# Altium schematic symbol library Resistors.SchLib: 31 symbols
Pins are listed as number, name and electrical type; pins without a type are passive.

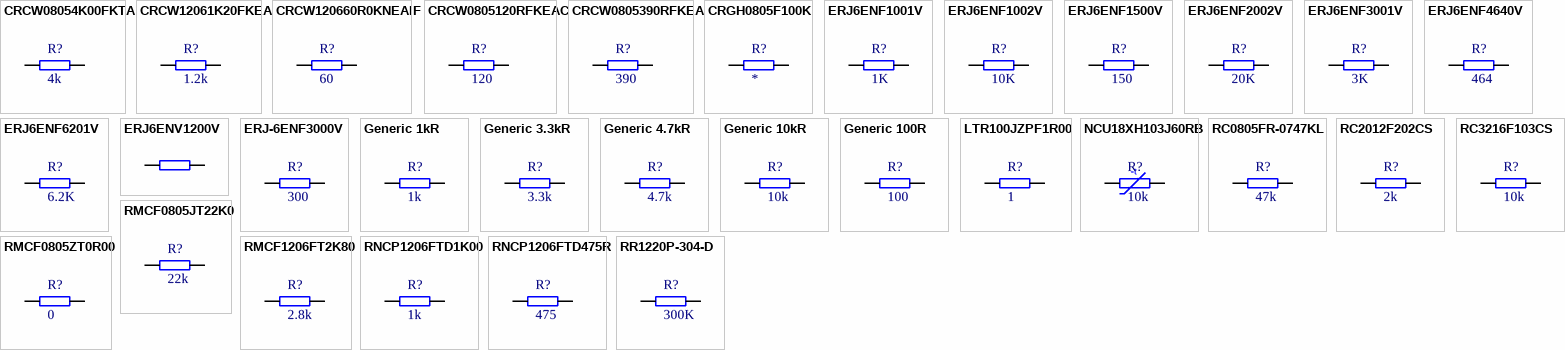
[diagram p0: symbols CRCW08054K00FKTA to RR1220P-304-D]

## CRCW08054K00FKTA
designator R?, comment 4k
RES SMD 4KOHM 1% 1/8W 0805; Manufacturer: Vishay Dale; Manufacturer Part Number: CRCW08054K00FKTA; Resistance: 4kR; Power Rating: 125mW; Voltage Rating: 150V; Temperature Coefficient: 100ppm/°C; Supplier 1: Digi-Key; Supplier Part Number 1: 541-CRCW08054K00FKTACT-ND; RoHS: Yes; Category: Chip SMD Resistors; Stock 1: 2286; Case/Package: 0805; Weight: 0.000194oz; Case Code (Imperial): 0805; Case Code (Metric): 2012; Contact Plating: Tin,Lead; Min Operating Temperature: -55°C; Max Operating Temperature: 155°C; Composition: Thick Film; Features: Automotive AEC-Q200; Packaging: Tape and Reel; Tolerance: 1%; Package Quantity: 5000; Number of Terminations: 2; Max Power Dissipation: 125mW; Length: 0.079inch; Height: 0.02inch; Width: 0.049inch; Radiation Hardening: No; Lead Free: Contains Lead; ComponentLink1URL: https://datasheet.ciiva.com/9075/dcrcw-9075638.pdf?src-supplier=Avnet; ComponentLink1Description: https://datasheet.ciiva.com/9075/dcrcw-9075638.pdf?src-supplier=Avnet
footprint R0805
pins: 1, 2

## CRCW12061K20FKEA
designator R?, comment 1.2k
VISHAY - CRCW12061K20FKEA - SMD Chip Resistor, 1206 [3216 Metric], 1.2 kohm, CRCW e3 Series, 200 V, Thick Film, 250 mW; Resistance: 1.2kR; Tolerance: 1%; Max Power Dissipation: 250mW; Temperature Coefficient: 100ppm/°C; Voltage Rating: 200V; Supplier 1: Digi-Key; Supplier Part Number 1: 541-1.20KFCT-ND; Manufacturer: Vishay; Manufacturer Part Number: CRCW12061K20FKEA; RoHS: Yes; Category: Chip SMD Resistors; Stock 1: 13043; Case/Package: 1206; Weight: 0.000353oz; Case Code (Metric): 3216; Case Code (Imperial): 1206; Contact Plating: Tin; Min Operating Temperature: -55°C; Max Operating Temperature: 155°C; Packaging: Tape and Reel; Composition: Thick Film; Number of Terminations: 2; Features: Automotive AEC-Q200; Power Rating: 250mW; Package Quantity: 10; Voltage Rating (DC): 200V; Working Voltage: 200V; Military Standard: Not; Termination: SMD/SMT; Length: 3.2mm; Height: 0.55mm; Width: 0.063inch; Depth: 1.6mm; Radiation Hardening: No; REACH SVHC: Unknown; Lead Free: Lead Free; ComponentLink1URL: https://datasheet.ciiva.com/11809/0900766b80d98b5e-11809061.pdf?src-supplier=RSComponents; ComponentLink1Description: https://datasheet.ciiva.com/11809/0900766b80d98b5e-11809061.pdf?src-supplier=RSComponents; ComponentLink2URL: https://datasheet.ciiva.com/2469/dcrcwe3-2469104.pdf?src-supplier=Digi-Key; ComponentLink2Description: https://datasheet.ciiva.com/2469/dcrcwe3-2469104.pdf?src-supplier=Digi-Key; ComponentLink3URL: https://datasheet.ciiva.com/22674/1847332-22674725.pdf?src-supplier=Element14; ComponentLink3Description: https://datasheet.ciiva.com/22674/1847332-22674725.pdf?src-supplier=Element14; ComponentLink4URL: https://datasheet.ciiva.com/16202/dcrcwe3-16202471.pdf?src-supplier=Future+Electronics; ComponentLink4Description: https://datasheet.ciiva.com/16202/dcrcwe3-16202471.pdf?src-supplier=Future+Electronics; ComponentLink5URL: https://datasheet.ciiva.com/22704/1533075-22704455.pdf?src-supplier=Element14; ComponentLink5Description: https://datasheet.ciiva.com/22704/1533075-22704455.pdf?src-supplier=Element14; ComponentLink6URL: https://datasheet.ciiva.com/7777/1697337-7777448.pdf?src-supplier=Element14; ComponentLink6Description: https://datasheet.ciiva.com/7777/1697337-7777448.pdf?src-supplier=Element14; ComponentLink7URL: https://datasheet.ciiva.com/16761/70201119-16761705.pdf?src-supplier=Allied+Electronics; ComponentLink7Description: https://datasheet.ciiva.com/16761/70201119-16761705.pdf?src-supplier=Allied+Electronics; ComponentLink8URL: https://datasheet.ciiva.com/16852/dcrcwe3-16852637.pdf?src-supplier=Avnet+Europe; ComponentLink8Description: https://datasheet.ciiva.com/16852/dcrcwe3-16852637.pdf?src-supplier=Avnet+Europe; ComponentLink9URL: https://datasheet.ciiva.com/22871/70201119-22871181.pdf?src-supplier=Allied+Electronics; ComponentLink9Description: https://datasheet.ciiva.com/22871/70201119-22871181.pdf?src-supplier=Allied+Electronics; ComponentLink10URL: https://datasheet.ciiva.com/2469/dcrcwe3-2469102.pdf?src-supplier=Digi-Key; ComponentLink10Description: https://datasheet.ciiva.com/2469/dcrcwe3-2469102.pdf?src-supplier=Digi-Key; ComponentLink11URL: https://datasheet.ciiva.com/2469/dcrcwe3-2469103.pdf?src-supplier=Digi-Key; ComponentLink11Description: https://datasheet.ciiva.com/2469/dcrcwe3-2469103.pdf?src-supplier=Digi-Key; ComponentLink12URL: https://datasheet.ciiva.com/7777/1533075-7777583.pdf?src-supplier=Element14; ComponentLink12Description: https://datasheet.ciiva.com/7777/1533075-7777583.pdf?src-supplier=Element14
footprint 1206
pins: 1, 2

## CRCW120660R0KNEAIF
designator R?, comment 60
D25/CRCW1206-IF 200 60R 10% ET1 e3; Manufacturer: Vishay; Manufacturer Part Number: CRCW120660R0KNEAIF; Max Power Dissipation: 250mW; Temperature Coefficient: 200ppm/°C; Voltage Rating: 200V; Supplier 1: Mouser; Supplier Part Number 1: 71-CRCW120660R0KNAIF; RoHS: Yes; Category: Chip SMD Resistors; Stock 1: 1886; Case/Package: 1206; Weight: 0.000353oz; Case Code (Imperial): 1206; Case Code (Metric): 3216; Min Operating Temperature: -55°C; Max Operating Temperature: 155°C; Composition: Thick Film; Features: Automotive AEC-Q200; Termination: SMD/SMT; Number of Terminations: 2; Power Rating: 250mW; Packaging: Tape and Reel; Package Quantity: 5000; Resistance: 60R; Tolerance: 10%; Length: 0.126inch; Height: 0.024inch; Width: 1.6mm; ComponentLink1URL: http://www.vishay.com/doc?20024?src-supplier=Mouser; ComponentLink1Description: http://www.vishay.com/doc?20024?src-supplier=Mouser; ComponentLink2URL: http://www.vishay.com/docs/20024/dcrcwife3.pdf?src-supplier=Digi-Key; ComponentLink2Description: http://www.vishay.com/docs/20024/dcrcwife3.pdf?src-supplier=Digi-Key
footprint 1206
pins: 1, 2

## CRCW0805120RFKEAC
designator R?, comment 120
RES 120 OHM 1% 1/8W 0805; Manufacturer: Vishay; Manufacturer Part Number: CRCW0805120RFKEAC; Resistance: 120R; Max Power Dissipation: 125mW; Temperature Coefficient: 100ppm/°C; Supplier 1: Digi-Key; Supplier Part Number 1: 541-CRCW0805120RFKEACCT-ND; RoHS: No; Category: Chip SMD Resistors; Stock 1: 40000; Case/Package: 0805; Min Operating Temperature: -55°C; Max Operating Temperature: 155°C; Composition: Thick Film; Packaging: Tape and Reel; Tolerance: 1%; Number of Terminations: 2; ComponentLink1URL: http://www.vishay.com/docs/28773/crcwce3.pdf?src-supplier=Digi-Key; ComponentLink1Description: http://www.vishay.com/docs/28773/crcwce3.pdf?src-supplier=Digi-Key
footprint 0805
pins: 1, 2

## CRCW0805390RFKEA
designator R?, comment 390
VISHAY - CRCW0805390RFKEA - RES, THICK FILM, 390R, 1%, 0.125W, 0805, REEL; Temperature Coefficient: 100ppm/°C; Voltage Rating (DC): 150V; Power Rating: 125mW; Supplier 1: Digi-Key; Manufacturer: Vishay; Manufacturer Part Number: CRCW0805390RFKEA; RoHS: Yes; Category: Chip SMD Resistors; Stock 1: 8492; Pricing 1: 1=0.10000, 10=0.06200, 100=0.02540, 1000=0.01142, 2500=0.00991 (USD); Mount: Surface Mount; Case/Package: 0805; Weight: 0.000194oz; Case Code (Metric): 2012; Case Code (Imperial): 0805; Contact Plating: Tin; Min Operating Temperature: -55°C; Max Operating Temperature: 155°C; Tolerance: 1%; Packaging: Tape and Reel; Termination: SMD/SMT; Resistance: 390R; Voltage Rating: 150V; Composition: Thick Film; Package Quantity: 10; Max Power Dissipation: 125mW; Number of Terminations: 2; Military Standard: Not; Features: Automotive AEC-Q200; Length: 2mm; Height: 0.45mm; Width: 0.049inch; Depth: 1.25mm; Radiation Hardening: No; Lead Free: Lead Free; REACH SVHC: Unknown; ComponentLink1URL: https://datasheet.ciiva.com/11811/0900766b80d98b26-11811064.pdf?src-supplier=RSComponents; ComponentLink1Description: https://datasheet.ciiva.com/11811/0900766b80d98b26-11811064.pdf?src-supplier=RSComponents; ComponentLink2URL: https://datasheet.ciiva.com/2467/dcrcwe3-2467398.pdf?src-supplier=Digi-Key; ComponentLink2Description: https://datasheet.ciiva.com/2467/dcrcwe3-2467398.pdf?src-supplier=Digi-Key; ComponentLink3URL: https://datasheet.ciiva.com/2467/dcrcwe3-2467399.pdf?src-supplier=Digi-Key; ComponentLink3Description: https://datasheet.ciiva.com/2467/dcrcwe3-2467399.pdf?src-supplier=Digi-Key; ComponentLink4URL: https://datasheet.ciiva.com/8940/dcrcwe3-8940583.pdf?src-supplier=Avnet; ComponentLink4Description: https://datasheet.ciiva.com/8940/dcrcwe3-8940583.pdf?src-supplier=Avnet; ComponentLink5URL: https://datasheet.ciiva.com/2467/dcrcwe3-2467400.pdf?src-supplier=Digi-Key; ComponentLink5Description: https://datasheet.ciiva.com/2467/dcrcwe3-2467400.pdf?src-supplier=Digi-Key; ComponentLink6URL: https://datasheet.ciiva.com/16762/70201119-16762921.pdf?src-supplier=Allied+Electronics; ComponentLink6Description: https://datasheet.ciiva.com/16762/70201119-16762921.pdf?src-supplier=Allied+Electronics; ComponentLink7URL: https://datasheet.ciiva.com/7672/1697337-7672987.pdf?src-supplier=Element14; ComponentLink7Description: https://datasheet.ciiva.com/7672/1697337-7672987.pdf?src-supplier=Element14; ComponentLink8URL: https://datasheet.ciiva.com/16395/dcrcwe3-16395355.pdf?src-supplier=Future+Electronics; ComponentLink8Description: https://datasheet.ciiva.com/16395/dcrcwe3-16395355.pdf?src-supplier=Future+Electronics; ComponentLink9URL: https://datasheet.ciiva.com/17162/dcrcwe3-17162445.pdf?src-supplier=Avnet+Europe; ComponentLink9Description: https://datasheet.ciiva.com/17162/dcrcwe3-17162445.pdf?src-supplier=Avnet+Europe; ComponentLink10URL: https://datasheet.ciiva.com/5543/dcrcwe3-109170-5543134.pdf?src-supplier=Mouser; ComponentLink10Description: https://datasheet.ciiva.com/5543/dcrcwe3-109170-5543134.pdf?src-supplier=Mouser; ComponentLink11URL: https://datasheet.ciiva.com/22682/1847332-22682671.pdf?src-supplier=Element14; ComponentLink11Description: https://datasheet.ciiva.com/22682/1847332-22682671.pdf?src-supplier=Element14; Supplier Part Number 1: 541-390CCT-ND
footprint 0805
pins: 1, 2

## CRGH0805F100K
designator R?
RES SMD 100K OHM 1% 1/3W 0805; Manufacturer: TE Connectivity Holsworthy; Manufacturer Part Number: CRGH0805F100K; Resistance: 100kR; Temperature Coefficient: 100ppm/°C; Power Rating: 330mW; Voltage Rating: 150V; Number of Resistors: 1; Supplier 1: Digi-Key; RoHS: Yes; Category: Chip SMD Resistors; Stock 1: 3599; Pricing 1: 1=0.10000, 10=0.07200, 100=0.02910, 1000=0.01309, 2500=0.01136 (USD); Mount: Surface Mount; Case/Package: 0805; Case Code (Imperial): 0805; Case Code (Metric): 2012; Min Operating Temperature: -55°C; Max Operating Temperature: 125°C; Tolerance: 1%; Packaging: Tape and Reel; Composition: Thick Film,Power resistor; Number of Terminations: 2; Voltage Rating (DC): 150V; Termination: Solder; Length: 2mm; Height: 0.55mm; Width: 1.25mm; Depth: 1.25mm; ELV: Compliant; REACH SVHC: No SVHC; ComponentLink1URL: https://datasheet.ciiva.com/22670/1755795-22670347.pdf?src-supplier=Element14; ComponentLink1Description: https://datasheet.ciiva.com/22670/1755795-22670347.pdf?src-supplier=Element14; ComponentLink2URL: https://datasheet.ciiva.com/28588/1755795-28588172.pdf?src-supplier=Element14; ComponentLink2Description: https://datasheet.ciiva.com/28588/1755795-28588172.pdf?src-supplier=Element14; Supplier Part Number 1: A126415CT-ND
footprint 0805
pins: 1, 2

## ERJ6ENF1001V
designator R?, comment 1K
RES SMD 1K OHM 1% 1/8W 0805; Manufacturer: Panasonic; Manufacturer Part Number: ERJ6ENF1001V; Resistance: 1kR; Power Rating: 125mW; Temperature Coefficient: 100ppm/°C; Voltage Rating (DC): 150V; Supplier 1: Digi-Key; Supplier Part Number 1: P1.00KCCT-ND; Stock 1: 946321; Pricing 1: 1 = 0.100000, 10 = 0.081000, 100 = 0.031100, 1000 = 0.013670, 2500 = 0.011810 (USD); RoHS: Yes; Mount: Surface Mount; Case/Package: 0805; Number of Pins: 2; Case Code (Metric): 2012; Case Code (Imperial): 0805; Contact Plating: Tin; Min Operating Temperature: -55°C; Max Operating Temperature: 155°C; Tolerance: 1%; Packaging: Tape and Reel; Number of Terminations: 2; Package Quantity: 1; Voltage Rating: 150V; Composition: Thick Film; Termination: SMD/SMT; Military Standard: Not; Max Power Dissipation: 125mW; Features: Automotive AEC-Q200; Length: 2mm; Height: 0.6mm; Width: 0.049inch; Depth: 1.25mm; Radiation Hardening: No; REACH SVHC: No SVHC; Lead Free: Lead Free; ComponentLink1URL: https://datasheet.ciiva.com/34303/1988962-34303619.pdf?src-supplier=Jameco; ComponentLink1Description: https://datasheet.ciiva.com/34303/1988962-34303619.pdf?src-supplier=Jameco; ComponentLink2URL: https://datasheet.ciiva.com/11808/0900766b80f80784-11808500.pdf?src-supplier=RSComponents; ComponentLink2Description: https://datasheet.ciiva.com/11808/0900766b80f80784-11808500.pdf?src-supplier=RSComponents; ComponentLink3URL: https://datasheet.ciiva.com/28532/426256-28532134.pdf?src-supplier=Element14; ComponentLink3Description: https://datasheet.ciiva.com/28532/426256-28532134.pdf?src-supplier=Element14; ComponentLink4URL: https://datasheet.ciiva.com/30051/aoa0000ce2-30051974.pdf?src-supplier=Onlinecomponents.com; ComponentLink4Description: https://datasheet.ciiva.com/30051/aoa0000ce2-30051974.pdf?src-supplier=Onlinecomponents.com; ComponentLink5URL: https://datasheet.ciiva.com/16774/70260748-16774249.pdf?src-supplier=Allied+Electronics; ComponentLink5Description: https://datasheet.ciiva.com/16774/70260748-16774249.pdf?src-supplier=Allied+Electronics; ComponentLink6URL: https://datasheet.ciiva.com/46373/1678782-46373337.pdf?src-supplier=Element14; ComponentLink6Description: https://datasheet.ciiva.com/46373/1678782-46373337.pdf?src-supplier=Element14; ComponentLink7URL: https://datasheet.ciiva.com/46373/1678782-46373338.pdf?src-supplier=Element14; ComponentLink7Description: https://datasheet.ciiva.com/46373/1678782-46373338.pdf?src-supplier=Element14; ComponentLink8URL: https://datasheet.ciiva.com/48532/aoa0000ce2-48532156.pdf?src-supplier=Avnet; ComponentLink8Description: https://datasheet.ciiva.com/48532/aoa0000ce2-48532156.pdf?src-supplier=Avnet; ComponentLink9URL: https://datasheet.ciiva.com/7942/426256-7942429.pdf?src-supplier=Element14; ComponentLink9Description: https://datasheet.ciiva.com/7942/426256-7942429.pdf?src-supplier=Element14; ComponentLink10URL: https://datasheet.ciiva.com/16199/aoa0000ce2-16199262.pdf?src-supplier=Future+Electronics; ComponentLink10Description: https://datasheet.ciiva.com/16199/aoa0000ce2-16199262.pdf?src-supplier=Future+Electronics; ComponentLink11URL: https://datasheet.ciiva.com/9117/aoa0000ce2-9117391.pdf?src-supplier=Avnet; ComponentLink11Description: https://datasheet.ciiva.com/9117/aoa0000ce2-9117391.pdf?src-supplier=Avnet; ComponentLink12URL: https://datasheet.ciiva.com/16523/aoa0000ce2-16523855.pdf?src-supplier=Avnet+Asia; ComponentLink12Description: https://datasheet.ciiva.com/16523/aoa0000ce2-16523855.pdf?src-supplier=Avnet+Asia; Category: Resistors
footprint R0805
pins: 1, 2

## ERJ6ENF1002V
designator R?, comment 10K
RES SMD 10K OHM 1% 1/8W 0805; Manufacturer: Yageo; Manufacturer Part Number: ERJ-6ENF1002V; Temperature Coefficient: 100ppm/°C; Voltage Rating (DC): 150V; Power Rating: 125mW; Resistance: 10000R; Supplier 1: Digi-Key; Supplier Part Number 1: P10.0KCCT-ND; Stock 1: 3342401; Pricing 1: 1 = 0.100000, 10 = 0.081000, 100 = 0.031100, 1000 = 0.013670, 2500 = 0.011810 (USD); RoHS: No; Mount: Surface Mount; Case/Package: 0805; Number of Pins: 2; Min Operating Temperature: -55°C; Max Operating Temperature: 155°C; Packaging: Tape and Reel; Tolerance: 1%; Length: 2mm; Height: 0.5mm; Depth: 1.25mm; Width: 1.25mm; REACH SVHC: No SVHC; Lead Free: Lead Free; ComponentLink1URL: https://datasheet.ciiva.com/27056/2078477-27056611.pdf?src-supplier=Jameco; ComponentLink1Description: https://datasheet.ciiva.com/27056/2078477-27056611.pdf?src-supplier=Jameco; Category: Resistors
footprint R0805
pins: 1, 2

## ERJ6ENF1500V
designator R?, comment 150
RES SMD 150 OHM 1% 1/8W 0805; Manufacturer: Panasonic; Manufacturer Part Number: ERJ6ENF1500V; Voltage Rating: 150V; Resistance: 150R; Power Rating: 125mW; Temperature Coefficient: 100ppm/°C; Supplier 1: Digi-Key; Supplier Part Number 1: P150CCT-ND; Stock 1: 287199; Pricing 1: 1 = 0.10000, 10 = 0.08100, 100 = 0.03110, 1000 = 0.01367, 2500 = 0.01181 (USD); RoHS: Yes; Mount: Surface Mount; Case/Package: 0805; Number of Pins: 2; Case Code (Metric): 2012; Case Code (Imperial): 0805; Contact Plating: Tin; Min Operating Temperature: -55°C; Max Operating Temperature: 155°C; Category: Resistors; Tolerance: 1%; Package Quantity: 1; Composition: Thick Film; Number of Terminations: 2; Military Standard: Not; Termination: SMD/SMT; Max Power Dissipation: 125mW; Voltage Rating (DC): 150V; Features: Automotive AEC-Q200; Working Voltage: 150V; Length: 2mm; Height: 0.6mm; Width: 0.049inch; Depth: 1.25mm; Radiation Hardening: No; REACH SVHC: No SVHC; Lead Free: Lead Free; ComponentLink1URL: https://datasheet.ciiva.com/11821/0900766b80f80784-11821520.pdf?src-supplier=RSComponents; ComponentLink1Description: https://datasheet.ciiva.com/11821/0900766b80f80784-11821520.pdf?src-supplier=RSComponents; ComponentLink2URL: https://datasheet.ciiva.com/7887/426256-7887029.pdf?src-supplier=Element14; ComponentLink2Description: https://datasheet.ciiva.com/7887/426256-7887029.pdf?src-supplier=Element14; ComponentLink3URL: https://datasheet.ciiva.com/16761/70260748-16761222.pdf?src-supplier=Allied+Electronics; ComponentLink3Description: https://datasheet.ciiva.com/16761/70260748-16761222.pdf?src-supplier=Allied+Electronics; ComponentLink4URL: https://datasheet.ciiva.com/46373/1678782-46373270.pdf?src-supplier=Element14; ComponentLink4Description: https://datasheet.ciiva.com/46373/1678782-46373270.pdf?src-supplier=Element14; ComponentLink5URL: https://datasheet.ciiva.com/46373/1678782-46373271.pdf?src-supplier=Element14; ComponentLink5Description: https://datasheet.ciiva.com/46373/1678782-46373271.pdf?src-supplier=Element14; ComponentLink6URL: https://datasheet.ciiva.com/30203/aoa0000ce2-30203641.pdf?src-supplier=Onlinecomponents.com; ComponentLink6Description: https://datasheet.ciiva.com/30203/aoa0000ce2-30203641.pdf?src-supplier=Onlinecomponents.com; ComponentLink7URL: https://datasheet.ciiva.com/9185/aoa0000ce2-9185514.pdf?src-supplier=Avnet; ComponentLink7Description: https://datasheet.ciiva.com/9185/aoa0000ce2-9185514.pdf?src-supplier=Avnet; Parameter 1: *
footprint R0805
pins: 1, 2

## ERJ6ENF2002V
designator R?, comment 20K
RES SMD 20K OHM 1% 1/8W 0805; Manufacturer: Panasonic; Manufacturer Part Number: ERJ6ENF2002V; Resistance: 20kR; Power Rating: 125mW; Voltage Rating: 150V; Temperature Coefficient: 100ppm/°C; Supplier 1: Digi-Key; Supplier Part Number 1: P20.0KCCT-ND; Stock 1: 1039498; Pricing 1: 1 = 0.10000, 10 = 0.08100, 100 = 0.03110, 1000 = 0.01367, 2500 = 0.01181 (USD); RoHS: Yes; Mount: Surface Mount; Case/Package: 0805; Case Code (Metric): 2012; Case Code (Imperial): 0805; Contact Plating: Tin; Min Operating Temperature: -55°C; Max Operating Temperature: 155°C; Tolerance: 1%; Packaging: Tape and Reel; Package Quantity: 1; Composition: Thick Film; Number of Terminations: 2; Military Standard: Not; Termination: SMD/SMT; Max Power Dissipation: 125mW; Voltage Rating (DC): 150V; Features: Automotive AEC-Q200; Working Voltage: 150V; Length: 2mm; Height: 0.6mm; Width: 0.049inch; Depth: 1.25mm; Radiation Hardening: No; REACH SVHC: No SVHC; Lead Free: Lead Free; ComponentLink1URL: https://datasheet.ciiva.com/11821/0900766b80f80784-11821565.pdf?src-supplier=RSComponents; ComponentLink1Description: https://datasheet.ciiva.com/11821/0900766b80f80784-11821565.pdf?src-supplier=RSComponents; ComponentLink2URL: https://datasheet.ciiva.com/30072/aoa0000ce2-30072453.pdf?src-supplier=Onlinecomponents.com; ComponentLink2Description: https://datasheet.ciiva.com/30072/aoa0000ce2-30072453.pdf?src-supplier=Onlinecomponents.com; ComponentLink3URL: https://datasheet.ciiva.com/43460/426256-43460054.pdf?src-supplier=Farnell; ComponentLink3Description: https://datasheet.ciiva.com/43460/426256-43460054.pdf?src-supplier=Farnell; ComponentLink4URL: https://datasheet.ciiva.com/16786/70260748-16786968.pdf?src-supplier=Allied+Electronics; ComponentLink4Description: https://datasheet.ciiva.com/16786/70260748-16786968.pdf?src-supplier=Allied+Electronics; ComponentLink5URL: https://datasheet.ciiva.com/9192/aoa0000ce2-9192153.pdf?src-supplier=Avnet; ComponentLink5Description: https://datasheet.ciiva.com/9192/aoa0000ce2-9192153.pdf?src-supplier=Avnet; ComponentLink6URL: https://datasheet.ciiva.com/48531/aoa0000ce2-48531785.pdf?src-supplier=Avnet; ComponentLink6Description: https://datasheet.ciiva.com/48531/aoa0000ce2-48531785.pdf?src-supplier=Avnet; ComponentLink7URL: https://datasheet.ciiva.com/15159/getdatasheetpartid-249649-15159066.pdf?src-supplier=Verical; ComponentLink7Description: https://datasheet.ciiva.com/15159/getdatasheetpartid-249649-15159066.pdf?src-supplier=Verical; ComponentLink8URL: https://datasheet.ciiva.com/17211/aoa0000ce2-17211115.pdf?src-supplier=Avnet+Europe; ComponentLink8Description: https://datasheet.ciiva.com/17211/aoa0000ce2-17211115.pdf?src-supplier=Avnet+Europe; ComponentLink9URL: https://datasheet.ciiva.com/46389/426256-46389083.pdf?src-supplier=Element14; ComponentLink9Description: https://datasheet.ciiva.com/46389/426256-46389083.pdf?src-supplier=Element14; ComponentLink10URL: https://datasheet.ciiva.com/46377/426256-46377356.pdf?src-supplier=Element14; ComponentLink10Description: https://datasheet.ciiva.com/46377/426256-46377356.pdf?src-supplier=Element14; ComponentLink11URL: https://datasheet.ciiva.com/24025/aoa0000ce2-24025709.pdf?src-supplier=Mouser; ComponentLink11Description: https://datasheet.ciiva.com/24025/aoa0000ce2-24025709.pdf?src-supplier=Mouser; ComponentLink12URL: https://datasheet.ciiva.com/28688/1678782-28688637.pdf?src-supplier=Element14; ComponentLink12Description: https://datasheet.ciiva.com/28688/1678782-28688637.pdf?src-supplier=Element14; ComponentLink13URL: https://datasheet.ciiva.com/16512/aoa0000ce2-16512158.pdf?src-supplier=Avnet+Asia; ComponentLink13Description: https://datasheet.ciiva.com/16512/aoa0000ce2-16512158.pdf?src-supplier=Avnet+Asia; ComponentLink14URL: https://datasheet.ciiva.com/22749/1678782-22749662.pdf?src-supplier=Element14; ComponentLink14Description: https://datasheet.ciiva.com/22749/1678782-22749662.pdf?src-supplier=Element14; Category: Resistors
footprint R0805
pins: 1, 2

## ERJ6ENF3001V
designator R?, comment 3K
RES SMD 3K OHM 1% 1/8W 0805; Manufacturer: Panasonic; Manufacturer Part Number: ERJ6ENF3001V; Resistance: 3kR; Power Rating: 125mW; Voltage Rating: 150V; Temperature Coefficient: 100ppm/°C; Supplier 1: Digi-Key; Supplier Part Number 1: P3.0KCCT-ND; Stock 1: 514759; Pricing 1: 1 = 0.10000, 10 = 0.08100, 100 = 0.03110, 1000 = 0.01367, 2500 = 0.01181 (USD); RoHS: Yes; Mount: Surface Mount; Case/Package: 0805; Weight: 0.000194oz; Case Code (Metric): 2012; Case Code (Imperial): 0805; Contact Plating: Tin; Min Operating Temperature: -55°C; Max Operating Temperature: 155°C; Tolerance: 1%; Packaging: Tape and Reel; Package Quantity: 1; Composition: Thick Film; Number of Terminations: 2; Termination: SMD/SMT; Military Standard: Not; Max Power Dissipation: 125mW; Voltage Rating (DC): 150V; Features: Automotive AEC-Q200; Length: 2mm; Height: 0.6mm; Width: 0.049inch; Depth: 1.25mm; Radiation Hardening: No; REACH SVHC: No SVHC; ComponentLink1URL: https://datasheet.ciiva.com/11821/0900766b80f80784-11821622.pdf?src-supplier=RSComponents; ComponentLink1Description: https://datasheet.ciiva.com/11821/0900766b80f80784-11821622.pdf?src-supplier=RSComponents; ComponentLink2URL: https://datasheet.ciiva.com/30198/aoa0000ce2-30198229.pdf?src-supplier=Onlinecomponents.com; ComponentLink2Description: https://datasheet.ciiva.com/30198/aoa0000ce2-30198229.pdf?src-supplier=Onlinecomponents.com; ComponentLink3URL: https://datasheet.ciiva.com/17213/aoa0000ce2-17213863.pdf?src-supplier=Avnet+Europe; ComponentLink3Description: https://datasheet.ciiva.com/17213/aoa0000ce2-17213863.pdf?src-supplier=Avnet+Europe; ComponentLink4URL: https://datasheet.ciiva.com/24165/aoa0000ce2-24165784.pdf?src-supplier=Mouser; ComponentLink4Description: https://datasheet.ciiva.com/24165/aoa0000ce2-24165784.pdf?src-supplier=Mouser; ComponentLink5URL: https://datasheet.ciiva.com/9117/aoa0000ce2-9117481.pdf?src-supplier=Avnet; ComponentLink5Description: https://datasheet.ciiva.com/9117/aoa0000ce2-9117481.pdf?src-supplier=Avnet; ComponentLink6URL: https://datasheet.ciiva.com/28691/1678782-28691979.pdf?src-supplier=Element14; ComponentLink6Description: https://datasheet.ciiva.com/28691/1678782-28691979.pdf?src-supplier=Element14; ComponentLink7URL: https://datasheet.ciiva.com/46386/426256-46386363.pdf?src-supplier=Element14; ComponentLink7Description: https://datasheet.ciiva.com/46386/426256-46386363.pdf?src-supplier=Element14; ComponentLink8URL: https://datasheet.ciiva.com/16758/70260748-16758588.pdf?src-supplier=Allied+Electronics; ComponentLink8Description: https://datasheet.ciiva.com/16758/70260748-16758588.pdf?src-supplier=Allied+Electronics; ComponentLink9URL: https://datasheet.ciiva.com/6137/426256-6137581.pdf?src-supplier=Farnell; ComponentLink9Description: https://datasheet.ciiva.com/6137/426256-6137581.pdf?src-supplier=Farnell; ComponentLink10URL: https://datasheet.ciiva.com/46373/426256-46373965.pdf?src-supplier=Element14; ComponentLink10Description: https://datasheet.ciiva.com/46373/426256-46373965.pdf?src-supplier=Element14; ComponentLink11URL: https://datasheet.ciiva.com/28565/1678782-28565182.pdf?src-supplier=Element14; ComponentLink11Description: https://datasheet.ciiva.com/28565/1678782-28565182.pdf?src-supplier=Element14; ComponentLink12URL: https://datasheet.ciiva.com/16762/70260748-16762943.pdf?src-supplier=Allied+Electronics; ComponentLink12Description: https://datasheet.ciiva.com/16762/70260748-16762943.pdf?src-supplier=Allied+Electronics; Category: Resistors
footprint R0805
pins: 1, 2

## ERJ6ENF4640V
designator R?, comment 464
RES SMD 464 OHM 1% 1/8W 0805; Supplier 1: Digi-Key; Supplier Part Number 1: P464CCT-ND
footprint R0805
pins: 1, 2

## ERJ6ENF6201V
designator R?, comment 6.2K
RES SMD 6.2K OHM 1% 1/8W 0805; Manufacturer: Panasonic; Manufacturer Part Number: ERJ6ENF6201V; Resistance: 6.2kR; Power Rating: 125mW; Voltage Rating: 150V; Temperature Coefficient: 100ppm/°C; Supplier 1: Digi-Key; Supplier Part Number 1: P6.20KCCT-ND; Stock 1: 65881; Pricing 1: 1 = 0.10000, 10 = 0.08100, 100 = 0.03110, 1000 = 0.01367, 2500 = 0.01181 (USD); RoHS: Yes; Mount: Surface Mount; Case/Package: 0805; Weight: 0.000194oz; Case Code (Imperial): 0805; Case Code (Metric): 2012; Contact Plating: Tin; Min Operating Temperature: -55°C; Max Operating Temperature: 155°C; Tolerance: 1%; Packaging: Tape and Reel; Package Quantity: 1; Composition: Thick Film; Termination: SMD/SMT; Number of Terminations: 2; Military Standard: Not; Max Power Dissipation: 125mW; Voltage Rating (DC): 150V; Features: Automotive AEC-Q200; Length: 2mm; Height: 0.6mm; Width: 1.2mm; Depth: 1.25mm; Radiation Hardening: No; REACH SVHC: No SVHC; ComponentLink1URL: https://datasheet.ciiva.com/11821/0900766b80f80784-11821682.pdf?src-supplier=RSComponents; ComponentLink1Description: https://datasheet.ciiva.com/11821/0900766b80f80784-11821682.pdf?src-supplier=RSComponents; ComponentLink2URL: https://datasheet.ciiva.com/46373/1678782-46373789.pdf?src-supplier=Element14; ComponentLink2Description: https://datasheet.ciiva.com/46373/1678782-46373789.pdf?src-supplier=Element14; ComponentLink3URL: https://datasheet.ciiva.com/46373/1678782-46373790.pdf?src-supplier=Element14; ComponentLink3Description: https://datasheet.ciiva.com/46373/1678782-46373790.pdf?src-supplier=Element14; Category: Resistors
footprint R0805
pins: 1, 2

## ERJ6ENV1200V
designator R?, comment 120 ohm  (value not drawn)
RES SMD 120 OHM 1% 1/8W 0805; ComponentLink1Description: https://datasheet.ciiva.com/11821/0900766b80f80784-11821533.pdf?src-supplier=RSComponents; ComponentLink1URL: https://datasheet.ciiva.com/11821/0900766b80f80784-11821533.pdf?src-supplier=RSComponents; Supplier 1: Digi-Key; Supplier Part Number 1: P120CCT-ND
footprint R0805
pins: 1, 2

## ERJ-6ENF3000V
designator R?, comment 300
RES SMD 300 OHM 1% 1/8W 0805; Manufacturer: Panasonic; Manufacturer Part Number: ERJ-6ENF3000V; Power Rating: 125mW; Voltage Rating: 150V; Resistance: 300R; Temperature Coefficient: 100ppm/°C; Supplier 1: Digi-Key; Supplier Part Number 1: P300CCT-ND; Stock 1: 271248; Pricing 1: 1 = 0.10000, 10 = 0.08100, 100 = 0.03110, 1000 = 0.01367, 2500 = 0.01181 (USD); RoHS: Yes; Mount: Surface Mount; Case/Package: 0805; Case Code (Imperial): 0805; Case Code (Metric): 2012; Contact Plating: Tin; Min Operating Temperature: -55°C; Max Operating Temperature: 155°C; Tolerance: 1%; Packaging: Tape and Reel; Package Quantity: 1; Composition: Thick Film; Number of Terminations: 2; Military Standard: Not; Max Power Dissipation: 125mW; Voltage Rating (DC): 150V; Features: Automotive AEC-Q200; Termination: SMD/SMT; Length: 2mm; Height: 0.028inch; Width: 1.2mm; Depth: 1.25mm; Radiation Hardening: No; REACH SVHC: No SVHC; Lead Free: Lead Free; ComponentLink1URL: https://datasheet.ciiva.com/7711/1678782-7711061.pdf?src-supplier=Element14; ComponentLink1Description: https://datasheet.ciiva.com/7711/1678782-7711061.pdf?src-supplier=Element14; ComponentLink2URL: https://datasheet.ciiva.com/9183/aoa0000ce2-9183350.pdf?src-supplier=Avnet; ComponentLink2Description: https://datasheet.ciiva.com/9183/aoa0000ce2-9183350.pdf?src-supplier=Avnet; ComponentLink3URL: https://datasheet.ciiva.com/30132/aoa0000ce2-30132023.pdf?src-supplier=Onlinecomponents.com; ComponentLink3Description: https://datasheet.ciiva.com/30132/aoa0000ce2-30132023.pdf?src-supplier=Onlinecomponents.com; ComponentLink4URL: https://datasheet.ciiva.com/17206/aoa0000ce2-17206376.pdf?src-supplier=Avnet+Europe; ComponentLink4Description: https://datasheet.ciiva.com/17206/aoa0000ce2-17206376.pdf?src-supplier=Avnet+Europe; ComponentLink5URL: https://datasheet.ciiva.com/16512/aoa0000ce2-16512233.pdf?src-supplier=Avnet+Asia; ComponentLink5Description: https://datasheet.ciiva.com/16512/aoa0000ce2-16512233.pdf?src-supplier=Avnet+Asia; ComponentLink6URL: https://datasheet.ciiva.com/22681/1678782-22681692.pdf?src-supplier=Element14; ComponentLink6Description: https://datasheet.ciiva.com/22681/1678782-22681692.pdf?src-supplier=Element14; ComponentLink7URL: https://datasheet.ciiva.com/46373/1678782-46373662.pdf?src-supplier=Element14; ComponentLink7Description: https://datasheet.ciiva.com/46373/1678782-46373662.pdf?src-supplier=Element14; ComponentLink8URL: https://datasheet.ciiva.com/46373/1678782-46373663.pdf?src-supplier=Element14; ComponentLink8Description: https://datasheet.ciiva.com/46373/1678782-46373663.pdf?src-supplier=Element14; Category: Resistors
footprint R0805
pins: 1, 2

## Generic 1kR
designator R?, comment 1k
1kR 1/8W 1% 0805 package - Set price to 0 in BOM / Product page: https://www.aliexpress.com/item/32868987725.html?spm=a2g0s.9042311.0.0.6a614c4dI8d4WV
footprint R0805
pins: 1, 2

## Generic 3.3kR
designator R?, comment 3.3k
3.3kR 1/8W 1% 0805 package - set price to 0 in BOM / Product page: https://www.aliexpress.com/item/32868987725.html?spm=a2g0s.9042311.0.0.6a614c4dI8d4WV
footprint R0805
pins: 1, 2

## Generic 4.7kR
designator R?, comment 4.7k
4.7kR 1/8W 1% 0805 package - set price to 0 in BOM / Product page: https://www.aliexpress.com/item/32868987725.html?spm=a2g0s.9042311.0.0.6a614c4dI8d4WV
footprint R0805
pins: 1, 2

## Generic 10kR
designator R?, comment 10k
10kR 1/8W 1% 0805 package - set price to 0 in BOM / Product page: https://www.aliexpress.com/item/32868987725.html?spm=a2g0s.9042311.0.0.6a614c4dI8d4WV
footprint R0805
pins: 1, 2

## Generic 100R
designator R?, comment 100
100R 1/8W 1% 0805 package - set price to 0 in BOM / Product page: https://www.aliexpress.com/item/32868987725.html?spm=a2g0s.9042311.0.0.6a614c4dI8d4WV
footprint R0805
pins: 1, 2

## LTR100JZPF1R00
designator R?, comment 1
RES SMD 1 OHM 2W 2512 WIDE; Manufacturer: Rohm; Manufacturer Part Number: LTR100JZPF1R00; Tolerance: 1%; Temperature Coefficient: 100ppm/°C; Resistance: 1R; Supplier 1: Digi-Key; Supplier Part Number 1: LTR100JZPF1R00CT-ND; RoHS: Yes; Category: Chip SMD Resistors; Stock 1: 815; Case/Package: 2512; Case Code (Imperial): 2512; Case Code (Metric): 6432; Min Operating Temperature: -55°C; Max Operating Temperature: 155°C; Max Power Dissipation: 2W; Features: Automotive AEC-Q200; Packaging: Tape and Reel; Composition: Thick Film; Number of Terminations: 2; Length: 0.126inch; Height: 0.028inch; Width: 0.252inch; Lead Free: Lead Free; ComponentLink1URL: http://www.rohm.com/web/global/datasheet/LTR100JZPD/ltr-e?src-supplier=Digi-Key; ComponentLink1Description: http://www.rohm.com/web/global/datasheet/LTR100JZPD/ltr-e?src-supplier=Digi-Key; ComponentLink2URL: https://www.rohm.com/datasheet/LTR100JZPD/ltr-e?src-supplier=Digi-Key; ComponentLink2Description: https://www.rohm.com/datasheet/LTR100JZPD/ltr-e?src-supplier=Digi-Key
footprint 2512-WIDE
pins: 1, 2

## NCU18XH103J60RB
designator R?, comment 10k
THERMISTOR NTC 10KOHM 3380K 0603; Manufacturer: Murata; Manufacturer Part Number: NCU18XH103J60RB; Tolerance: 5%; Max Power Dissipation: 100mW; Supplier 1: Digi-Key; Supplier Part Number 1: 490-16641-1-ND; RoHS: No; Category: Thermistors; Stock 1: 3979; Mount: Surface Mount; Case/Package: 0603; Case Code (Imperial): 0603; Case Code (Metric): 1608; Min Operating Temperature: -40°C; Max Operating Temperature: 125°C; Packaging: Cut Tape; ComponentLink1URL: https://www.murata.com/en-us/products/productdata/8796836233246/L0770E.pdf?src-supplier=Digi-Key; ComponentLink1Description: https://www.murata.com/en-us/products/productdata/8796836233246/L0770E.pdf?src-supplier=Digi-Key; ComponentLink2URL: https://www.murata.com/~/media/webrenewal/support/library/catalog/products/thermistor/r03e.ashx?la=en-us&src-supplier=Digi-Key; ComponentLink2Description: https://www.murata.com/~/media/webrenewal/support/library/catalog/products/thermistor/r03e.ashx?la=en-us&src-supplier=Digi-Key
footprint 0603
pins: 1, 2
text: -t

## RC0805FR-0747KL
designator R?, comment 47k
Res Thick Film 0805 47K Ohm 1% 1/8W 100ppm/C Molded SMD Paper T/R; Manufacturer: Yageo; Manufacturer Part Number: RC0805FR-0747KL; Temperature Coefficient: 100ppm/°C; Resistance: 47kR; Voltage Rating (DC): 150V; Power Rating: 125mW; Supplier 1: Digi-Key; Supplier Part Number 1: 311-47.0KCRCT-ND; RoHS: Yes; Category: Chip SMD Resistors; Stock 1: 1847936; Case/Package: 0805; Number of Pins: 2; Contact Plating: Tin,Matte; Case Code (Imperial): 0805; Case Code (Metric): 2012; Min Operating Temperature: -55°C; Max Operating Temperature: 155°C; Tolerance: 1%; Composition: Thick Film; Packaging: Tape and Reel; Termination: SMD/SMT; Voltage Rating: 150V; Length: 2mm; Height: 0.5mm; Width: 1.25mm; Depth: 1.25mm; Radiation Hardening: No; REACH SVHC: Unknown; Lead Free: Lead Free; ComponentLink1URL: https://datasheet.ciiva.com/7941/1686128-7941799.pdf?src-supplier=Element14; ComponentLink1Description: https://datasheet.ciiva.com/7941/1686128-7941799.pdf?src-supplier=Element14; ComponentLink2URL: https://datasheet.ciiva.com/7941/444164-7941800.pdf?src-supplier=Element14; ComponentLink2Description: https://datasheet.ciiva.com/7941/444164-7941800.pdf?src-supplier=Element14; ComponentLink3URL: https://datasheet.ciiva.com/7941/444164-7941801.pdf?src-supplier=Element14; ComponentLink3Description: https://datasheet.ciiva.com/7941/444164-7941801.pdf?src-supplier=Element14; ComponentLink4URL: https://datasheet.ciiva.com/16742/rc0805-16742265.pdf?src-supplier=Future+Electronics; ComponentLink4Description: https://datasheet.ciiva.com/16742/rc0805-16742265.pdf?src-supplier=Future+Electronics; ComponentLink5URL: https://datasheet.ciiva.com/46447/444164-46447581.pdf?src-supplier=Element14; ComponentLink5Description: https://datasheet.ciiva.com/46447/444164-46447581.pdf?src-supplier=Element14
footprint R0805
pins: 1, 2

## RC2012F202CS
designator R?, comment 2k
Res Thick Film 0805 2K Ohm 1% 0.125W(1/8W) ±100ppm/C Molded SMD T/R; Manufacturer: Samsung; Manufacturer Part Number: RC2012F202CS; Resistance: 2kR; Max Power Dissipation: 125mW; Temperature Coefficient: 100ppm/°C; Voltage Rating (DC): 150V; Supplier 1: Avnet; Supplier Part Number 1: RC2012F202CS; RoHS: Yes; Category: Chip SMD Resistors; Case/Package: 0805; Case Code (Metric): 2012; Contact Plating: Tin; Case Code (Imperial): 0805; Min Operating Temperature: -55°C; Max Operating Temperature: 155°C; Tolerance: 1%; Number of Terminations: 2; Composition: Thick Film; Features: Moisture Resistant; Packaging: Tape and Reel; Length: 0.079inch; Height: 0.024inch; Width: 0.049inch; Radiation Hardening: No; Lead Free: Lead Free; ComponentLink1URL: https://datasheet.ciiva.com/26151/chip-resistor-150112-1-26151801.pdf?src-supplier=Digi-Key; ComponentLink1Description: https://datasheet.ciiva.com/26151/chip-resistor-150112-1-26151801.pdf?src-supplier=Digi-Key; ComponentLink2URL: https://datasheet.ciiva.com/26151/chip-resistor-150112-1-26151821.pdf?src-supplier=Digi-Key; ComponentLink2Description: https://datasheet.ciiva.com/26151/chip-resistor-150112-1-26151821.pdf?src-supplier=Digi-Key
footprint 0805
pins: 1, 2

## RC3216F103CS
designator R?, comment 10k
Res Thick Film 1206 10K Ohm 1% 0.25W(1/4W) ±100ppm/C Molded SMD T/R; Manufacturer: Samsung; Manufacturer Part Number: RC3216F103CS; Resistance: 10kR; Temperature Coefficient: 100ppm/°C; Max Power Dissipation: 250mW; Voltage Rating (DC): 200V; Supplier 1: Digi-Key; Supplier Part Number 1: 1276-5742-2-ND; RoHS: Yes; Category: Chip SMD Resistors; Stock 1: 130000; Case/Package: 1206; Contact Plating: Tin; Case Code (Imperial): 1206; Case Code (Metric): 3216; Min Operating Temperature: -55°C; Max Operating Temperature: 155°C; Composition: Thick Film; Tolerance: 1%; Features: Moisture Resistant; Number of Terminations: 2; Military Standard: Not; Packaging: Tape and Reel; Length: 0.126inch; Height: 0.026inch; Width: 0.063inch; Depth: 1.6mm; Radiation Hardening: No; Lead Free: Lead Free; ComponentLink1URL: https://datasheet.ciiva.com/26138/chip-resistor-150112-1-26138952.pdf?src-supplier=Digi-Key; ComponentLink1Description: https://datasheet.ciiva.com/26138/chip-resistor-150112-1-26138952.pdf?src-supplier=Digi-Key; ComponentLink2URL: https://datasheet.ciiva.com/26138/chip-resistor-150112-1-26138971.pdf?src-supplier=Digi-Key; ComponentLink2Description: https://datasheet.ciiva.com/26138/chip-resistor-150112-1-26138971.pdf?src-supplier=Digi-Key; ComponentLink3URL: https://datasheet.ciiva.com/26138/chip-resistor-150112-1-26138940.pdf?src-supplier=Digi-Key; ComponentLink3Description: https://datasheet.ciiva.com/26138/chip-resistor-150112-1-26138940.pdf?src-supplier=Digi-Key
footprint 1206
pins: 1, 2

## RMCF0805JT22K0
designator R?, comment 22k
RMCF Series 0805 Case 22 kOhm ±5 % ±200 ppm/°C SMT Thick Film Chip Resistor; Manufacturer: Stackpole Electronics; Manufacturer Part Number: RMCF0805JT22K0; Resistance: 22kR; Power Rating: 125mW; Tolerance: 5%; Supplier 1: Digi-Key; Supplier Part Number 1: RMCF0805JT22K0CT-ND; RoHS: Yes; Category: Chip SMD Resistors; Stock 1: 180257; Mount: Surface Mount; Case/Package: 0805; Case Code (Metric): 2012; Contact Plating: Tin,Matte; Case Code (Imperial): 0805; Min Operating Temperature: -55°C; Max Operating Temperature: 155°C; Composition: Thick Film; Number of Terminations: 2; Military Standard: Not; Packaging: Tape and Reel; Features: Automotive AEC-Q200; Max Power Dissipation: 125mW; Temperature Coefficient: 200ppm/°C; Length: 2mm; Height: 0.026inch; Width: 0.049inch; Depth: 1.25mm; Radiation Hardening: No; Lead Free: Lead Free; ComponentLink1URL: https://www.seielect.com/catalog/SEI-RMCF_RMCP.pdf?src-supplier=Avnet; ComponentLink1Description: https://www.seielect.com/catalog/SEI-RMCF_RMCP.pdf?src-supplier=Avnet; ComponentLink2URL: https://www.seielect.com/catalog/SEI-Packaging.pdf?src-supplier=Digi-Key; ComponentLink2Description: https://www.seielect.com/catalog/SEI-Packaging.pdf?src-supplier=Digi-Key; ComponentLink3URL: http://components.arrow.com/part/dataview/50510674S7171777N1174?src-supplier=Arrow; ComponentLink3Description: http://components.arrow.com/part/dataview/50510674S7171777N1174?src-supplier=Arrow; ComponentLink4URL: https://www.verical.com/server-webapp/html/getDatasheet?partID=360917&src-supplier=Verical; ComponentLink4Description: https://www.verical.com/server-webapp/html/getDatasheet?partID=360917&src-supplier=Verical; ComponentLink5URL: https://www.seielect.com/Catalog/SEI-RMCF_RMCP.pdf?src-supplier=Digi-Key; ComponentLink5Description: https://www.seielect.com/Catalog/SEI-RMCF_RMCP.pdf?src-supplier=Digi-Key; ComponentLink6URL: http://www.seielect.com/catalog/sei-rmc.pdf?src-supplier=Future+Electronics; ComponentLink6Description: http://www.seielect.com/catalog/sei-rmc.pdf?src-supplier=Future+Electronics
footprint R0805
pins: 1, 2

## RMCF0805ZT0R00
designator R?, comment 0
STACKPOLE ELECTRONICS - RMCF0805ZT0R00. - RES THKFLM 0805 0 OHM JUMPER 1/8W 200PPM/ C SMD ROHS COMPLIANT: YES; Resistance: 0mR; Power Rating: 125mW; Supplier 1: Digi-Key; Supplier Part Number 1: RMCF0805ZT0R00CT-ND; Manufacturer: Stackpole Electronics; Manufacturer Part Number: RMCF0805ZT0R00; RoHS: Yes; Category: Chip SMD Resistors; Stock 1: 14305; Mount: Surface Mount; Case/Package: 0805; Case Code (Metric): 2012; Case Code (Imperial): 0805; Contact Plating: Tin,Matte; Min Operating Temperature: -55°C; Max Operating Temperature: 155°C; Packaging: Tape and Reel; Features: Automotive AEC-Q200; Composition: Thick Film; Number of Terminations: 2; Military Standard: Not; Max Power Dissipation: 125mW; Length: 2mm; Height: 0.026inch; Width: 0.049inch; Depth: 1.25mm; Radiation Hardening: No; Lead Free: Lead Free; ComponentLink1URL: https://datasheet.ciiva.com/15193/getdatasheetpartid-360417-15193658.pdf?src-supplier=Verical; ComponentLink1Description: https://datasheet.ciiva.com/15193/getdatasheetpartid-360417-15193658.pdf?src-supplier=Verical
footprint 0805
pins: 1, 2

## RMCF1206FT2K80
designator R?, comment 2.8k
RES 2.8K OHM 1/4W 1% 1206; Manufacturer: Stackpole Electronics; Manufacturer Part Number: RMCF1206FT2K80; Max Power Dissipation: 250mW; Temperature Coefficient: 100ppm/°C; Resistance: 2.8kR; Supplier 1: Digi-Key; Supplier Part Number 1: 738-RMCF1206FT2K80CT-ND; RoHS: Yes; Category: Chip SMD Resistors; Stock 1: 3531; Mount: Surface Mount; Case/Package: 1206; Case Code (Metric): 3216; Contact Plating: Tin,Matte; Case Code (Imperial): 1206; Min Operating Temperature: -55°C; Max Operating Temperature: 155°C; Package Quantity: 5000; Packaging: Tape and Reel; Tolerance: 1%; Composition: Thick Film; Number of Terminations: 2; Features: Automotive AEC-Q200; Length: 0.126inch; Height: 0.028inch; Width: 0.063inch; Radiation Hardening: No; ComponentLink1URL: https://www.seielect.com/Catalog/SEI-RMCF_RMCP.pdf?src-supplier=Digi-Key; ComponentLink1Description: https://www.seielect.com/Catalog/SEI-RMCF_RMCP.pdf?src-supplier=Digi-Key; ComponentLink2URL: http://www.seielect.com/Catalog/SEI-RMCF_RMCP.pdf?src-supplier=Digi-Key; ComponentLink2Description: http://www.seielect.com/Catalog/SEI-RMCF_RMCP.pdf?src-supplier=Digi-Key; ComponentLink3URL: https://www.seielect.com/catalog/SEI-RMCF_RMCP.pdf?src-supplier=Avnet; ComponentLink3Description: https://www.seielect.com/catalog/SEI-RMCF_RMCP.pdf?src-supplier=Avnet
footprint 1206
pins: 1, 2

## RNCP1206FTD1K00
designator R?, comment 1k
RES 1K OHM 1% 1/2W 1206; Manufacturer: Stackpole Electronics; Manufacturer Part Number: RNCP1206FTD1K00; Resistance: 1kR; Max Power Dissipation: 500mW; Temperature Coefficient: 100ppm/°C; Supplier 1: Digi-Key; Supplier Part Number 1: RNCP1206FTD1K00CT-ND; RoHS: Yes; Category: Chip SMD Resistors; Stock 1: 224420; Mount: Surface Mount; Case/Package: 1206; Case Code (Imperial): 1206; Case Code (Metric): 3216; Contact Plating: Tin,Matte; Min Operating Temperature: -55°C; Max Operating Temperature: 155°C; Composition: Thin Film; Tolerance: 1%; Packaging: Tape and Reel; Number of Terminations: 2; Features: Moisture Resistant,Anti-Sulfur; Length: 0.122inch; Height: 0.024inch; Width: 0.059inch; Radiation Hardening: No; Lead Free: Lead Free; ComponentLink1URL: https://www.seielect.com/catalog/SEI-Packaging.pdf?src-supplier=Digi-Key; ComponentLink1Description: https://www.seielect.com/catalog/SEI-Packaging.pdf?src-supplier=Digi-Key; ComponentLink2URL: http://www.seielect.com/Catalog/SEI-rncp.pdf?src-supplier=Avnet; ComponentLink2Description: http://www.seielect.com/Catalog/SEI-rncp.pdf?src-supplier=Avnet
footprint 1206
pins: 1, 2

## RNCP1206FTD475R
designator R?, comment 475
RES SMD 475 OHM 1% 1/2W 1206; Manufacturer: Stackpole Electronics; Manufacturer Part Number: RNCP1206FTD475R; Resistance: 475R; Max Power Dissipation: 500mW; Temperature Coefficient: 100ppm/°C; Supplier 1: Digi-Key; Supplier Part Number 1: RNCP1206FTD475RCT-ND; RoHS: Yes; Category: Chip SMD Resistors; Stock 1: 343266; Mount: Surface Mount; Case/Package: 1206; Case Code (Metric): 3216; Case Code (Imperial): 1206; Min Operating Temperature: -55°C; Max Operating Temperature: 155°C; Packaging: Tape and Reel; Composition: Thin Film; Number of Terminations: 2; Features: Moisture Resistant,Anti-Sulfur; Tolerance: 1%; Length: 0.122inch; Height: 0.024inch; Width: 0.059inch; Lead Free: Lead Free; ComponentLink1URL: http://www.seielect.com/Catalog/SEI-rncp.pdf?src-supplier=Digi-Key; ComponentLink1Description: http://www.seielect.com/Catalog/SEI-rncp.pdf?src-supplier=Digi-Key; ComponentLink2URL: https://www.seielect.com/catalog/SEI-Packaging.pdf?src-supplier=Digi-Key; ComponentLink2Description: https://www.seielect.com/catalog/SEI-Packaging.pdf?src-supplier=Digi-Key
footprint 1206
pins: 1, 2

## RR1220P-304-D
designator R?, comment 300K
300 kOhms ±0.5% 0.1W, 1/10W Chip Resistor 0805 (2012 Metric) Thin Film; Supplier 1: Digi-Key; Supplier Part Number 1: RR12P300KDCT-ND
footprint R0805
pins: 1, 2